# Altium schematic symbol library ADG704BRMZ-REEL.Schlib: 1 symbol
Pins are listed as number, name and electrical type; pins without a type are passive.

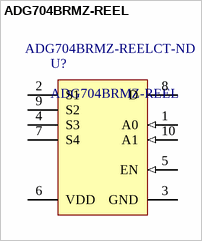
[diagram p0: symbol ADG704BRMZ-REEL]

## ADG704BRMZ-REEL
designator U?  Supplier Part Number 1: ADG704BRMZ-REELCT-ND
CMOS Low Voltage 4 Ohm, 4-Channel Multiplexer, -40 to 85 degC, 10-pin SOP (RM-10), Reel; Manufacturer: Analog Devices; Supply V Guar Performance: Single_(+3.3V), Single_(+3V), Single_(+5V); Bandwidth (Hz): 200M; Max Analog Signal Range: 0 to Vdd; Ron (ohms): 4; PackageVersion: Aug-05; ComponentLink1Description: Manufacturer URL; ComponentLink2Description: Datasheet; ComponentLink3Description: Package Specification; Mounting Technology: Surface Mount; ComponentLink3URL: http://www.analog.com/static/imported-files/packages/PKG_PDF/MSOP%28RM%29/RM_10.pdf; DatasheetVersion: Rev. A; ComponentLink1URL: http://www.analog.com/en/index.html; Code_JEDEC: MO-187-BA; Packing: Reel; PartNumber: ADG704BRMZ-REEL; PackageReference: RM-10; PackageDescription: 10-Pin Mini Small Outline Package, Body 3 x 3 mm, Pitch 0.5 mm; ComponentLink2URL: http://www.analog.com/static/imported-files/data_sheets/ADG704.pdf; Supplier 1: Digi-Key
footprint ADI-RM-10_N (SOP, 10-Leads, Body 3x3mm, Pitch 0.5mm, IPC Medium Density)
pins: 1 A0 (in) "Logic control input.", 2 S1 "Source terminal. May be an input or output.", 3 GND (power) "Ground (0 V) reference.", 4 S3 "Source terminal. May be an input or output.", 5 EN (in) "Logic control input.", 6 VDD (power) "Most positive power supply potential.", 7 S4 "Source terminal. May be an input or output.", 8 D "Drain terminal. May be an input or output.", 9 S2 "Source terminal. May be an input or output.", 10 A1 (in) "Logic control input."